# Altium schematic symbol library Schlib1.SchLib: 26 symbols
Pins are listed as number, name and electrical type; pins without a type are passive.

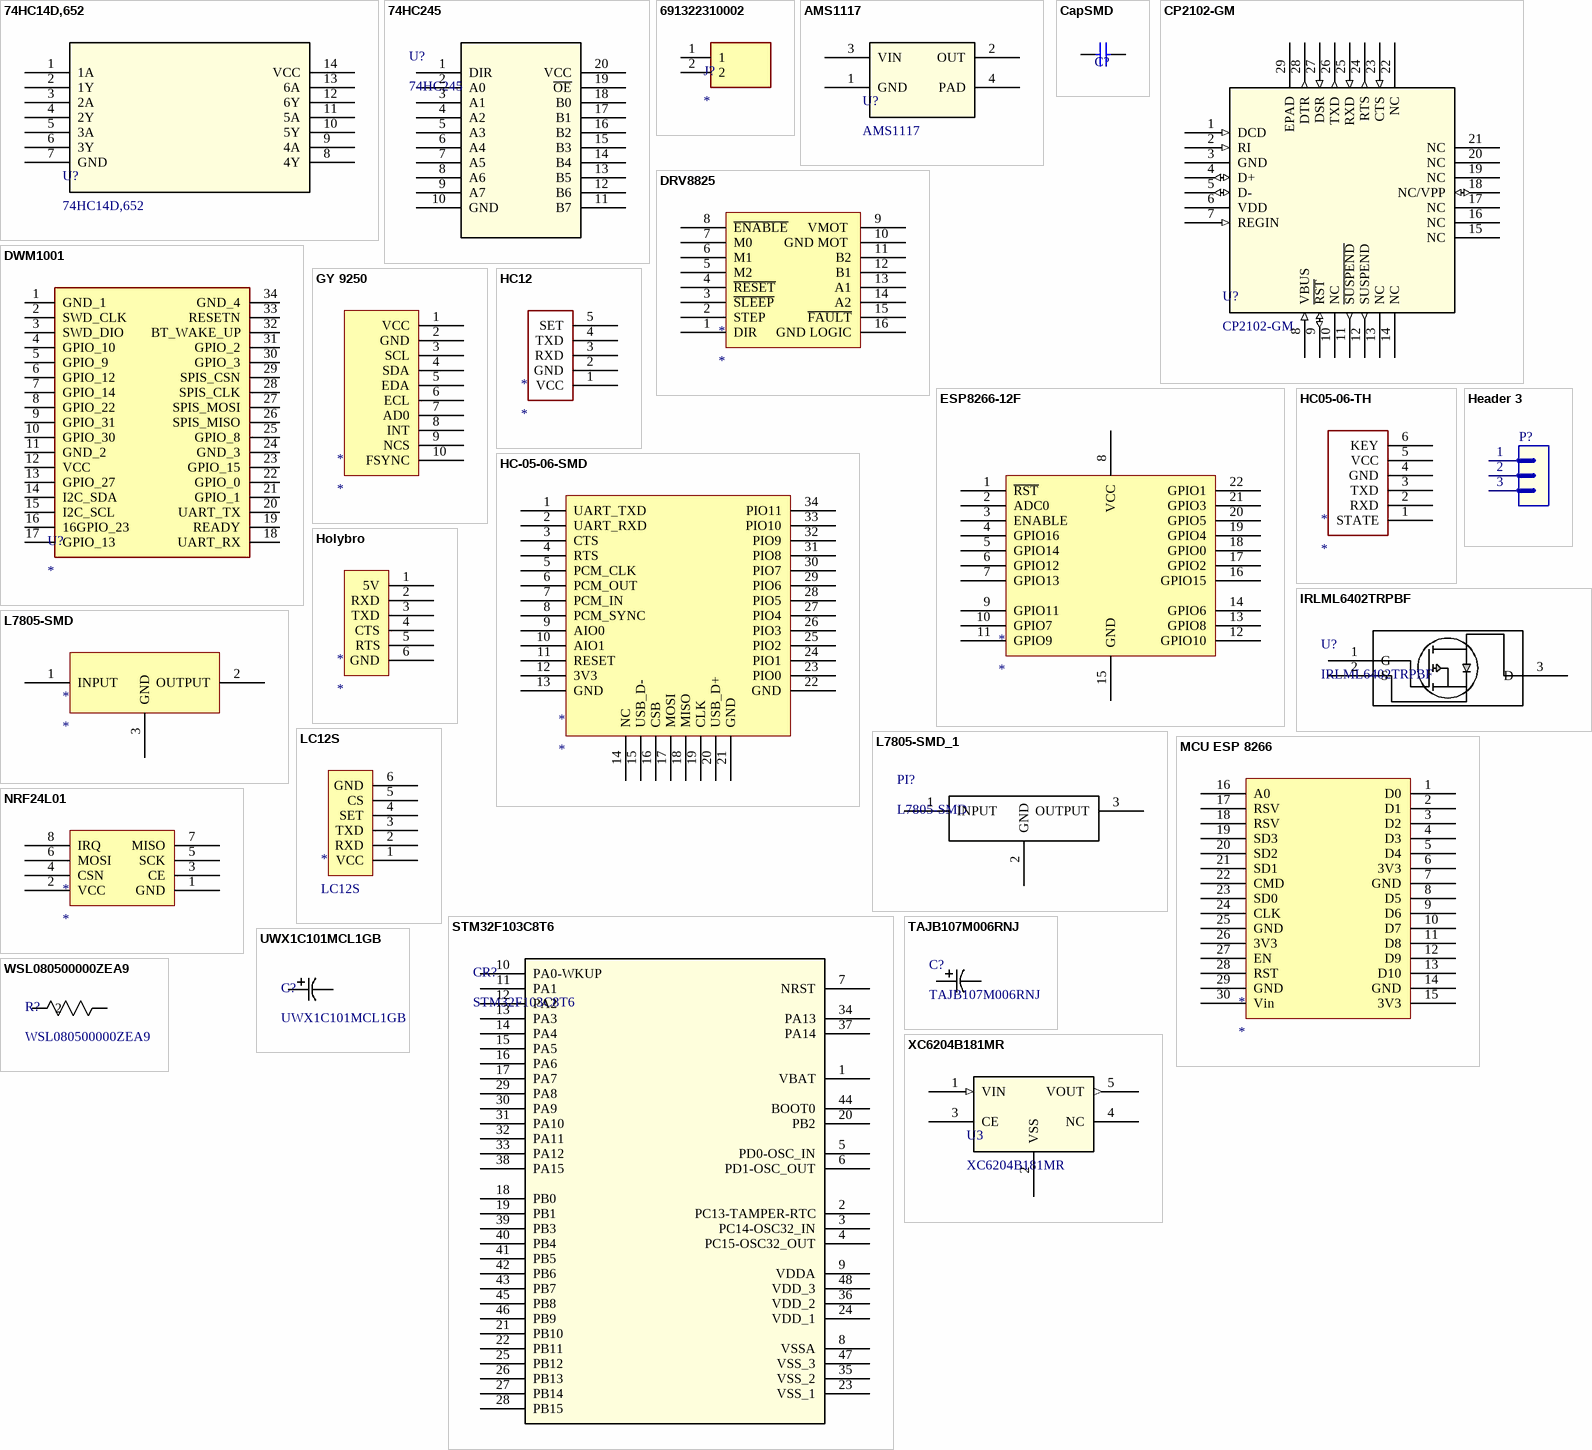
[diagram p0: symbols 74HC14D,652 to XC6204B181MR]

## 74HC14D,652
designator U?
Vendor: Nexperia; SourceLibrary: Nexperia_2018-05-2018; Manufacturer_Part_Number: 74HC14D,652; Copyright: Copyright (C) 2016 Accelerated Designs. All rights reserved; RefDes: RefDes; Type: DEV
footprint 74HC14D,652
pins: 1 1A (oc), 2 1Y (oc), 3 2A (oc), 4 2Y (oc), 5 3A (oc), 6 3Y (oc), 7 GND (oc), 8 4Y (oc), 9 4A (oc), 10 5Y (oc), 11 5A (oc), 12 6Y (oc), 13 6A (oc), 14 VCC (oc)

## 74HC245
designator U?
No Description Available; Vendor: Texas Instruments; Built_By: EMA_UL_Team; SourceLibrary: TI_2002-01-01_7; Manufacturer_Part_Number: 74HC245; Copyright: Copyright (C) 2018 Accelerated Designs. All rights reserved; RefDes: RefDes; Type: DEV
footprint 74HC245,625
pins: 1 DIR, 2 A0, 3 A1, 4 A2, 5 A3, 6 A4, 7 A5, 8 A6, 9 A7, 10 GND, 11 B7, 12 B6, 13 B5, 14 B4, 15 B3, 16 B2, 17 B1, 18 B0, 19 ~{OE}, 20 VCC

## 691322310002
designator J?
Connector; Manufacturer_Name: Wurth Elektronik; Manufacturer_Part_Number: 691322310002; Datasheet Link: http://katalog.we-online.de/em/datasheet/6913223100xx.pdf; Height: 7.2mm; Arrow Part Number: 691322310002; Mouser Part Number: 710-691322310002; Mouser Price/Stock: https://www.mouser.co.uk/ProductDetail/Wurth-Elektronik/691322310002?qs=7gQLVZk5cPmRrKo3UYIUbQ%3D%3D
footprint 691322310002
pins: 1, 2

## AMS1117
designator U?
Vendor: Advanced Monolithic Systems; Built_By: EMA_Matt; SourceLibrary: Advanced_Monolithic_Systems_10-16-2019; Copyright: Copyright (C) 2018 Accelerated Designs. All rights reserved; Manufacturer_Part_Number: AMS1117; RefDes: RefDes; Type: DEV
footprint AMS1117
pins: 1 GND, 2 OUT (oc), 3 VIN (oc), 4 PAD (power)

## CapSMD
designator C?, comment Capacitor Ceramic  (value not drawn)
Capacitor; Value: 33p; Published: 8-Jun-2000; LatestRevisionDate: 17-Jul-2002; LatestRevisionNote: Re-released for DXP Platform.; PackageReference: RAD-0.3; Publisher: Altium Limited
simulation model CAP (Capacitor)
signal-integrity model Cap
footprint 0805 (Chip Capacitor; Body 2.0 x 1.2 mm (LxW typ))
pins: 1, 2

## CP2102-GM
designator U?
Vendor: Silicon Labs; Built_By: EMA_UL_Team; SourceLibrary: Silicon_Labs_2015-03-23; Manufacturer_Part_Number: CP2102-GM; Copyright: Copyright (C) 2018 Accelerated Designs. All rights reserved; RefDes: RefDes; Type: DEV
footprint cp2102-gm
pins: 1 DCD (in), 2 RI (in), 3 GND (power), 4 D+ (io), 5 D- (io), 6 VDD (power), 7 REGIN (in), 8 VBUS (in), 9 ~{RST} (io), 10 NC, 11 ~{SUSP}~{END} (out), 12 SUSPEND (out), 13 NC, 14 NC, 15 NC, 16 NC, 17 NC, 18 NC/VPP (io), 19 NC, 20 NC, 21 NC, 22 NC, 23 CTS (in), 24 RTS (out), 25 RXD (in), 26 TXD (out), 27 DSR (in), 28 DTR (out), 29 EPAD

## DRV8825
designator *
footprint DRV8825
pins: 1 DIR, 2 STEP, 3 ~{SLEEP}, 4 ~{RESET}, 5 M2, 6 M1, 7 M0, 8 ~{ENABLE}, 9 VMOT , 10 GND MOT , 11 B2, 12 B1, 13 A1, 14 A2, 15 ~{FAULT}, 16 GND LOGIC

## DWM1001
designator U?
Manufacturer_Name: Decawave Limited; Manufacturer_Part_Number: DWM1001; Datasheet Link: https://www.decawave.com/sites/default/files/dwm1001_datasheet.pdf; Height: 3mm; Arrow Part Number: DWM1001
footprint DWM1001
pins: 1 GND_1, 2 SWD_CLK, 3 SWD_DIO, 4 GPIO_10, 5 GPIO_9, 6 GPIO_12, 7 GPIO_14, 8 GPIO_22, 9 GPIO_31, 10 GPIO_30, 11 GND_2, 12 VCC, 13 GPIO_27, 14 I2C_SDA, 15 I2C_SCL, 16 16GPIO_23, 17 GPIO_13, 18 UART_RX, 19 READY, 20 UART_TX, 21 GPIO_1, 22 GPIO_0, 23 GPIO_15, 24 GND_3, 25 GPIO_8, 26 SPIS_MISO, 27 SPIS_MOSI, 28 SPIS_CLK, 29 SPIS_CSN, 30 GPIO_3, 31 GPIO_2, 32 BT_WAKE_UP, 33 RESETN, 34 GND_4

## ESP8266-12F
designator *
Local supply: Hshop; Local supply link: https://www.elecrow.com/download/ESP-12F.pdf
footprint ESP8266
pins: 1 ~{RST}, 2 ADC0, 3 ENABLE, 4 GPIO16, 5 GPIO14, 6 GPIO12, 7 GPIO13, 8 VCC, 9 GPIO11, 10 GPIO7, 11 GPIO9, 12 GPIO10, 13 GPIO8, 14 GPIO6, 15 GND, 16 GPIO15, 17 GPIO2, 18 GPIO0, 19 GPIO4, 20 GPIO5, 21 GPIO3, 22 GPIO1

## GY 9250
designator *
footprint GY 9250
pins: 1 VCC, 2 GND, 3 SCL, 4 SDA, 5 EDA, 6 ECL, 7 AD0, 8 INT, 9 NCS, 10 FSYNC

## HC05-06-TH
designator *
footprint HC-05-06-TH
pins: 1 STATE, 2 RXD, 3 TXD, 4 GND, 5 VCC, 6 KEY

## HC12
designator *
Local supply: Hshop; Local supply number: HS000897; Local supply link: https://hshop.vn/products/mach-thu-phat-rf-uart-si4463-433mhzkhoang-coch-1km
footprint HC12
pins: 1 VCC, 2 GND, 3 RXD, 4 TXD, 5 SET

## HC-05-06-SMD
designator *
Local supply: Hshop
footprint HC-05-06-SMD
pins: 1 UART_TXD, 2 UART_RXD, 3 CTS, 4 RTS, 5 PCM_CLK, 6 PCM_OUT, 7 PCM_IN, 8 PCM_SYNC, 9 AIO0, 10 AIO1, 11 RESET, 12 3V3, 13 GND, 14 NC, 15 USB_D-, 16 CSB, 17 MOSI, 18 MISO, 19 CLK, 20 USB_D+, 21 GND, 22 GND, 23 PIO0, 24 PIO1, 25 PIO2, 26 PIO3, 27 PIO4, 28 PIO5, 29 PIO6, 30 PIO7, 31 PIO8, 32 PIO9, 33 PIO10, 34 PIO11

## Header 3
designator P?
Header, 3-Pin; LatestRevisionDate: 17-Jul-2002; LatestRevisionNote: Re-released for DXP Platform.; Publisher: Altium Limited
footprint jp3 (Jumper 3)
pins: 1, 2, 3

## Holybro
designator *
Supplier: https://www.lazada.vn/products/ld-holybro-433mhz-915-mhz-500-mw-thu-phat-vo-tuyen-xa-bo-v3-cho-pixhawk-4-dieu-khien-chuyen-bay-i430804435-s768474304.html?spm=a2o4n.searchlist.list.4.25396b19yIS9XO&search=1
footprint Holybro
pins: 1 5V, 2 RXD, 3 TXD, 4 CTS, 5 RTS, 6 GND

## IRLML6402TRPBF
designator U?
No Description Available; Source_Library: Infineon_2020-02-27.xlr; Built_By: EMA_Justin; SourceLibrary: Infineon_2020-02-27; Vendor: Infineon; Copyright: Copyright (C) 2018 Accelerated Designs. All rights reserved; Manufacturer_Part_Number: IRLML6402TRPBF; RefDes: RefDes; Type: DEV
footprint IRLML6402TRPBF
pins: 1 G, 2 S, 3 D

## L7805-SMD
designator *
footprint L7805-SMD
pins: 1 INPUT, 2 OUTPUT, 3 GND

## L7805-SMD_1
designator PI?, comment L7805-SMD
Manufacturer_Part_Number: L7805CD2T-TR; Vendor: STMicroelectronics; Built_By: EMA_UL_Team; Copyright: Copyright (C) 2018 Accelerated Designs. All rights reserved; RefDes: RefDes; Type: DEV
footprint D2PAk
pins: 1 INPUT, 2 GND, 3 OUTPUT

## LC12S
designator *
Local supply: HShop; Local supply link: https://hshop.vn/products/mach-thu-phat-rf-uart-lc12s-2-4ghz
footprint LC12S
pins: 1 VCC, 2 RXD, 3 TXD, 4 SET, 5 CS, 6 GND

## MCU ESP 8266
designator *
pins: 1 D0, 2 D1, 3 D2, 4 D3, 5 D4, 6 3V3, 7 GND, 8 D5, 9 D6, 10 D7, 11 D8, 12 D9, 13 D10, 14 GND, 15 3V3, 16 A0, 17 RSV, 18 RSV, 19 SD3, 20 SD2, 21 SD1, 22 CMD, 23 SD0, 24 CLK, 25 GND, 26 3V3, 27 EN, 28 RST, 29 GND, 30 Vin

## NRF24L01
designator *
Local supply: Hshop; Local supply link: https://lastminuteengineers.com/nrf24l01-arduino-wireless-communication/
footprint NRF24L01
pins: 1 GND, 2 VCC, 3 CE, 4 CSN, 5 SCK, 6 MOSI, 7 MISO, 8 IRQ

## STM32F103C8T6
designator CR?
SourceLibrary: StMicro_2011-06-07; Built_By: EMA_UL_Team; Vendor: STMicroelectronics; Type: DEV; Manufacturer_Part_Number: STM32F103C8T6; Copyright: Copyright (C) 2018 Accelerated Designs. All rights reserved; RefDes: RefDes
footprint STM32F103C8T6
pins: 1 VBAT (oc), 2 PC13-TAMPER-RTC (oc), 3 PC14-OSC32_IN (oc), 4 PC15-OSC32_OUT (oc), 5 PD0-OSC_IN (oc), 6 PD1-OSC_OUT (oc), 7 NRST (oc), 8 VSSA (oc), 9 VDDA (oc), 10 PA0-WKUP (oc), 11 PA1 (oc), 12 PA2 (oc), 13 PA3 (oc), 14 PA4 (oc), 15 PA5 (oc), 16 PA6 (oc), 17 PA7 (oc), 18 PB0 (oc), 19 PB1 (oc), 20 PB2 (oc), 21 PB10 (oc), 22 PB11 (oc), 23 VSS_1 (oc), 24 VDD_1 (oc), 25 PB12 (oc), 26 PB13 (oc), 27 PB14 (oc), 28 PB15 (oc), 29 PA8 (oc), 30 PA9 (oc), 31 PA10 (oc), 32 PA11 (oc), 33 PA12 (oc), 34 PA13 (oc), 35 VSS_2 (oc), 36 VDD_2 (oc), 37 PA14 (oc), 38 PA15 (oc), 39 PB3 (oc), 40 PB4 (oc), 41 PB5 (oc), 42 PB6 (oc), 43 PB7 (oc), 44 BOOT0 (oc), 45 PB8 (oc), 46 PB9 (oc), 47 VSS_3 (oc), 48 VDD_3 (oc)

## TAJB107M006RNJ
designator C?
Vendor: AVX Corporation; Built_By: EMA_UL_Team; SourceLibrary: AVX_2015-1-12; Type: DEV; Manufacturer_Part_Number: TAJB107M006RNJ; Copyright: Copyright (C) 2018 Accelerated Designs. All rights reserved; RefDes: RefDes
footprint TAJB107M006RNJ
pins: 1 11, 2 12

## UWX1C101MCL1GB
designator C?
Vendor: Nichicon; Built_By: EMA_UL_Team; SourceLibrary: Nichicon_2011-10-21; Type: DEV; Manufacturer_Part_Number: UWX1C101MCL1GB; Copyright: Copyright (C) 2018 Accelerated Designs. All rights reserved; RefDes: RefDes
footprint UWX1C101MCL1GB
pins: 1, 2

## WSL080500000ZEA9
designator R?
RESISTER; Vendor: Vishay; Built_By: EMA_UL_Team; Manufacturer_Part_Number: WSL080500000ZEA9; Copyright: Copyright (C) 2018 Accelerated Designs. All rights reserved; RefDes: RefDes; Type: DEV
footprint WSL080500000ZEA9
pins: 1, 2

## XC6204B181MR
designator U3
Vendor: Torex Semiconductor; Built_By: EMA_UL_Team; SourceLibrary: Torex_2016-07-05_1; Manufacturer_Part_Number: XC6204B181MR; Copyright: Copyright (C) 2018 Accelerated Designs. All rights reserved; RefDes: RefDes; Type: DEV
footprint XC6204B332MR
pins: 1 VIN (in), 2 VSS, 3 CE, 4 NC (oc), 5 VOUT (out)